# Altium schematic symbol library Transistors.SchLib: 2 symbols
Pins are listed as number, name and electrical type; pins without a type are passive.

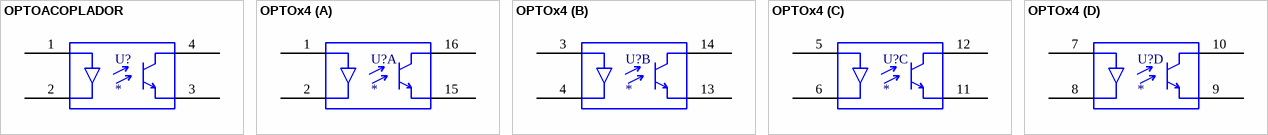
[diagram p0: symbols OPTOACOPLADOR to OPTOx4]

## OPTOACOPLADOR
designator U?
pins: 1, 2, 3, 4

## OPTOx4
designator U?
Array de optoacopladores x4
footprint PS2501_4XSM (Array de optoacopladores)
part A pins: 1, 2, 15, 16
part B pins: 3, 4, 13, 14
part C pins: 5, 6, 11, 12
part D pins: 7, 8, 9, 10